# Altium footprint library ebf_mp157 s1 dev board_20210223_PCB封装_AD格式.PcbLib: 69 footprints (part 4 of 5)
Each footprint in its own frame and in the unit in brackets; x right, y up, seen from the top. Pads: shape width x height; smd on the part's side, far side on the other; paste and mask are expansions set on the pad; w line width, h text height; cw(c..) or ccw(c..) is an arc to the next point about the centre after c.
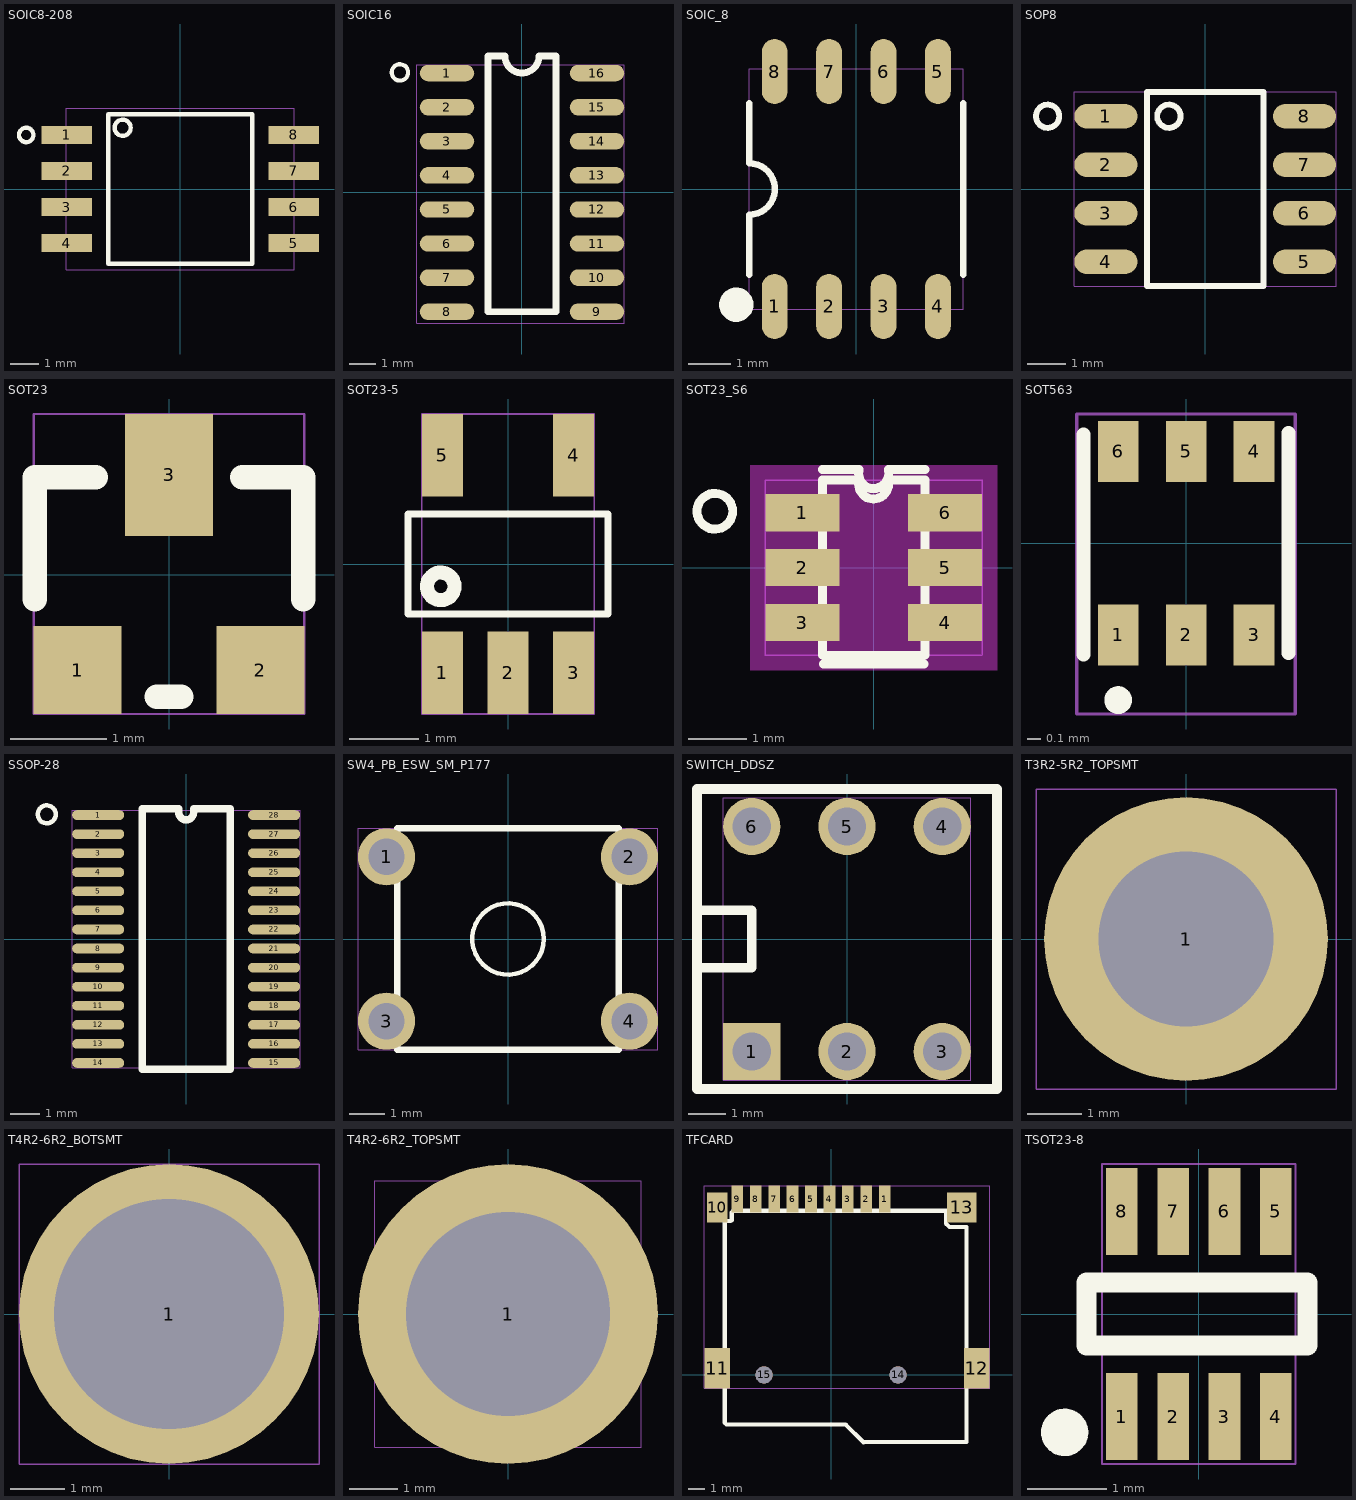
[diagram p3: the footprints below, top view; thin cyan lines are the x and y axes]

## SOIC8-208 [mm]
pads (8):
  rect 1.778x0.635 smd mask+0.051: 1(-4,1.905) 2(-4,0.635) 3(-4,-0.635) 4(-4,-1.905) 5(4,-1.905) 6(4,-0.635) 7(4,0.635) 8(4,1.905)
Top Overlay:
  circle w0.152: c-2.032,2.159 r0.284
  circle w0.152: c-5.43,1.905 r0.254
  lines w0.152: -2.54,-2.64 -2.54,2.64 ; -2.54,-2.64 2.54,-2.64 ; -2.54,-2.64 -2.54,2.64 ; -2.54,-2.64 2.54,-2.64 ; -2.54,2.64 2.54,2.64 ; -2.54,2.64 2.54,2.64 ; 2.54,-2.64 2.54,2.64 ; 2.54,-2.64 2.54,2.64
Top Assembly:
  text "U13" at -1.487,-0.635 h1.27
Mechanical 20:
  lines w0.025: -4.018,-2.845 4.018,-2.845 4.018,2.845 -4.018,2.845 -4.018,-2.845

## SOIC16 [mil]
pads (16):
  oval 80x24 smd mask+2.5: 1(-110,175) 2(-110,125) 3(-110,75) 4(-110,25) 5(-110,-25) 6(-110,-75) 7(-110,-125) 8(-110,-175) 9(110,-175) 10(110,-125) 11(110,-75) 12(110,-25) 13(110,25) 14(110,75) 15(110,125) 16(110,175)
Top Overlay:
  circle w5.98: c-179.02,175.99 r12.02
  lines w10: -50,-175 -50,200 -25,200 ccw(c0,200) 25,200 50,200 50,-175 -50,-175
Top Assembly:
  text "U9" at 39.04,25 h50
Mechanical 20:
  lines w1: -154,-192 150,-192 150,187 -154,187 -154,-192

## SOIC_8 [mm]
pads (8):
  oval 0.6x1.52 smd mask+0.05: 1(-1.905,-2.74) 2(-0.635,-2.74) 3(0.635,-2.74) 4(1.905,-2.74) 5(1.905,2.74) 6(0.635,2.74) 7(-0.635,2.74) 8(-1.905,2.74)
Top Overlay:
  circle w0.4: c-2.8,-2.7 r0.2
  lines w0.15: -2.5,-0.6 ccw(c-2.5,0) -2.5,0.6 ; -2.5,-2 -2.5,-0.6 ; -2.5,0.6 -2.5,2 ; 2.5,-2 2.5,2
Top Assembly:
  text "U11" at 1.215,0.635 h1.27
Mechanical 20:
  lines w0.025: -2.5,-2.8 2.5,-2.8 2.5,2.8 -2.5,2.8 -2.5,-2.8

## SOP8 [mil]
pads (8):
  oval 65x25 smd mask+1.97: 1(-102.36,75) 2(-102.36,25) 3(-102.36,-25) 4(-102.36,-75) 5(102.36,-75) 6(102.36,-25) 7(102.36,25) 8(102.36,75)
Top Overlay:
  circle w6: c-162.36,75 r12
  circle w6: c-37.36,75 r12
  lines w6: -60,-100 60,-100 60,100 -60,100 -60,-100
Top Assembly:
  text "U8" at -40.23,-25 h50
Mechanical 20:
  lines w1: -134.86,-100 -134.86,100 134.86,100 134.86,-100 -134.86,-100

## SOT23 [mil]
pads (3):
  rect 36x36 smd mask+1.97: 1(-37.5,-39) 2(37.5,-39)
  rect 36x50 smd mask+1.97: 3(0,41)
Top Overlay:
  lines w10: -55,-10 -55,40 -30,40 ; -5,-50 5,-50 ; 30,40 55,40 55,-10
Top Assembly:
  text "U21" at -51.77,-25 h50
Mechanical 20:
  lines w1: -55.5,-57 55.5,-57 55.5,66 -55.5,66 -55.5,-57

## SOT23-5 [mm]
pads (5):
  rect 0.6x1.2 smd mask+0.05: 1(-0.95,-1.575) 2(0,-1.575) 3(0.95,-1.575) 4(0.95,1.575) 5(-0.95,1.575)
Top Overlay:
  circle w0.203: c-0.975,-0.325 r0.2
  lines w0.102: -1.45,-0.725 1.45,-0.725 1.45,0.475 1.45,0.725 -1.45,0.725 -1.45,0.475 -1.45,-0.725
Top Assembly:
  text "U3" at 1.022,0.635 h1.27
Mechanical 20:
  lines w0.025: -1.25,-2.175 1.25,-2.175 1.25,2.175 -1.25,2.175 -1.25,-2.175

## SOT23_S6 [mil]
pads (6):
  rect 50x25 smd mask+2: 1(-48,37) 2(-48,0) 3(-48,-37) 4(48,-37) 5(48,0) 6(48,37)
Top Layer keep-out:
  region: -83.06,-68.96 -83.06,68.98 83,68.98 83,-68.96
Top Overlay:
  circle w5.98: c-107.02,37.99 r12.02
  lines w6: -34.5,66 -10,66 ; -34,-65 34,-65 ; -10,58 ccw(c-0.21,56.22) -0.21,46.27 ccw(c-0.21,56.58) 10,58 9.79,58.27 ; -10,59 -34.5,59 -34.5,-59 34.5,-59 34.5,59 10,59 ; -10,65 ccw(c-0.21,63.22) -0.21,53.27 ccw(c-0.21,63.58) 10,65 9.79,65.27 ; 10,66 34.5,66
Top Assembly:
  text "U24" at 63.68,25 h50
Mechanical 20:
  lines w1: -73,-58.96 -73,58.98 73,58.98 73,-58.96 -73,-58.96

## SOT563 [mm]
pads (6):
  rect 0.3x0.45 smd mask+0.05: 1(-0.5,-0.675) 2(0,-0.675) 3(0.5,-0.675) 4(0.5,0.675) 5(0,0.675) 6(-0.5,0.675)
Top Overlay:
  circle w0.1: c-0.5,-1.155 r0.052
  lines w0.1: -0.755,-0.821 -0.755,0.801 ; 0.753,-0.81 0.753,0.812
Top Assembly:
  text "U25" at -1.587,-0.635 h1.27
Mechanical 20:
  lines w0.025: -0.805,-1.257 0.803,-1.257 0.803,0.95 -0.805,0.95 -0.805,-1.257

## SSOP-28 [mil]
pads (28):
  oval 70x13 smd mask+2.5: 1(-118.11,166.4) 2(-118.11,140.8) 3(-118.11,115.2) 4(-118.11,89.6) 5(-118.11,64) 6(-118.11,38.4) 7(-118.11,12.8) 8(-118.11,-12.8) 9(-118.11,-38.4) 10(-118.11,-64) 11(-118.11,-89.6) 12(-118.11,-115.2) 13(-118.11,-140.8) 14(-118.11,-166.4) 15(118.11,-166.4) 16(118.11,-140.8) 17(118.11,-115.2) 18(118.11,-89.6) 19(118.11,-64) 20(118.11,-38.4) 21(118.11,-12.8) 22(118.11,12.8) 23(118.11,38.4) 24(118.11,64) 25(118.11,89.6) 26(118.11,115.2) 27(118.11,140.8) 28(118.11,166.4)
Top Overlay:
  circle w5.98: c-187.13,167.39 r12.02
  lines w10: -59.06,-175 59.06,-175 59.06,175 10,175 10,170 cw(c0,170) -10,170 -10,175 -59.06,175 -59.06,-175
Top Assembly:
  text "U18" at 58.56,25 h50
Mechanical 20:
  lines w1: -153.11,-172.9 153.11,-172.9 153.11,172.9 -153.11,172.9 -153.11,-172.9

## SW4_PB_ESW_SM_P177 [mil]
pads (4):
  round 63 hole 40 mask+2.5: 1(-133.86,90.55) 2(133.86,90.55) 3(-133.86,-90.55) 4(133.86,-90.55)
Top Overlay:
  circle w5: c0,0 r39.37
  lines w7: -122.05,-122.05 -122.05,122.05 122.05,122.05 122.05,-122.05 -122.05,-122.05
Top Assembly:
  text "SW5" at -67.72,-25 h50
Mechanical 20:
  lines w1: -165.35,-122.05 165.35,-122.05 165.35,122.05 -165.35,122.05 -165.35,-122.05

## SWITCH_DDSZ [mil]
pads (6):
  rect 60x60 / inner round 60 / far side rect 60x60 hole 40 mask+2.5: 1(-100,-118.11)
  round 60 hole 40 mask+2.5: 2(0,-118.11) 3(100,-118.11) 4(100,118.11) 5(0,118.11) 6(-100,118.11)
Top Overlay:
  lines w10: -157.48,-30 -100,-30 -100,30 -157.48,30 ; -157.48,-157.48 157.48,-157.48 157.48,157.48 -157.48,157.48 -157.48,-157.48
Top Assembly:
  text "SW1" at -57.01,-25 h50
Mechanical 20:
  lines w1: -130,-148.11 130,-148.11 130,148.11 -130,148.11 -130,-148.11

## T3R2-5R2_TOPSMT [mm]
pads (1):
  round 5.2 hole 3.2 mask+0.05: 1(0,0)
Top Assembly:
  text "H20" at -1.587,-0.635 h1.27
Mechanical 20:
  lines w0.025: -2.75,-2.75 2.75,-2.75 2.75,2.75 -2.75,2.75 -2.75,-2.75

## T4R2-6R2_BOTSMT [mm]
pads (1):
  round 5.5 / inner round 5.5 / far side round 6.2 hole 4.22 mask+0.05: 1(0,0)
Top Assembly:
  text "H9" at -0.992,-0.635 h1.27
Mechanical 20:
  lines w0.025: -2.75,-2.75 2.75,-2.75 2.75,2.75 -2.75,2.75 -2.75,-2.75

## T4R2-6R2_TOPSMT [mm]
pads (1):
  round 6.2 / inner round 5.5 / far side round 5.5 hole 4.22 mask+0.05: 1(0,0)
Top Assembly:
  text "H7" at -1.022,-0.635 h1.27
Mechanical 20:
  lines w0.025: -2.75,-2.75 2.75,-2.75 2.75,2.75 -2.75,2.75 -2.75,-2.75

## TFCARD [mil]
pads (15):
  rect 27.56x62.99 smd mask+1.97: 1(125.98,413.39) 2(82.67,413.39) 3(39.37,413.39) 4(-3.94,413.39) 5(-47.25,413.39) 6(-90.55,413.39) 7(-133.86,413.39) 8(-177.17,413.39) 9(-220.48,413.39)
  rect 47.24x70 smd mask+1.97: 10(-267.72,393.7)
  rect 60x95 smd mask+1.97: 11(-267.72,15.75) 12(342.52,15.75)
  rect 70x70 smd mask+1.97: 13(307.08,393.7)
  round 40 hole 40 unplated mask+2.5: 14(157.48,0) 15(-157.48,0)
Top Overlay:
  lines w10: -251.72,361.75 -235.72,361.75 -233.72,363.75 -233.72,381.75 -229.72,385.75 270.28,385.75 270.28,355.75 278.28,347.75 318.28,347.75 318.28,-157.48 76.28,-158.25 34.28,-116.25 -245.72,-116.25 -249.72,-112.25 -249.72,359.75 -251.72,361.75
Top Assembly:
  text "J19" at -52.13,-25 h50
Mechanical 20:
  lines w1: -297.72,-31.75 372.52,-31.75 372.52,444.88 -297.72,444.88 -297.72,-31.75

## TSOT23-8 [mm]
pads (8):
  rect 0.4x1.1 smd mask+0.051: 1(-0.975,-1.3) 2(-0.325,-1.3) 3(0.325,-1.3) 4(0.975,-1.3) 5(0.975,1.3) 6(0.325,1.3) 7(-0.325,1.3) 8(-0.975,1.3)
Top Overlay:
  circle w0.3: c-1.7,-1.5 r0.15
  lines w0.254: -1.425,-0.4 1.375,-0.4 1.375,0.4 -1.425,0.4 -1.425,-0.4
Top Assembly:
  text "U4" at -1.052,-0.635 h1.27
Mechanical 20:
  lines w0.025: -1.226,-1.901 1.226,-1.901 1.226,1.901 -1.226,1.901 -1.226,-1.901